# Altium schematic symbol library S6B-PH-K-S(LF)(SN).SchLib: 1 symbol
Pins are listed as number, name and electrical type; pins without a type are passive.

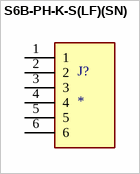
[diagram p0: symbol S6B-PH-K-S(LF)(SN)]

## S6B-PH-K-S(LF)(SN)
designator J?
PH Series 6 Position 2 mm Pitch Through Hole Side Entry Shrouded Header; MP: S6B-PH-K-S(LF)(SN); Price: None; Value: *; Package: None; Availability: Unavailable
pins: 1, 2, 3, 4, 5, 6